# Altium schematic symbol library Antenna_Schematic_Library.SchLib: 3 symbols
Pins are listed as number, name and electrical type; pins without a type are passive.

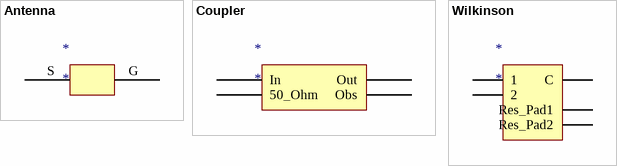
[diagram p0: symbols Antenna to Wilkinson]

## Antenna
designator *  (net tie, no BOM)
footprint Antenna_v1
pins: G, S

## Coupler
designator *  (net tie, no BOM)
footprint Coupler_v1
pins: 50_Ohm, In, Obs, Out

## Wilkinson
designator *  (net tie, no BOM)
footprint Wilkinson_v1
pins: 1, 2, C, Res_Pad1, Res_Pad2